# Altium schematic symbol library 74S153.SchLib: 1 symbol
Pins are listed as number, name and electrical type; pins without a type are passive.

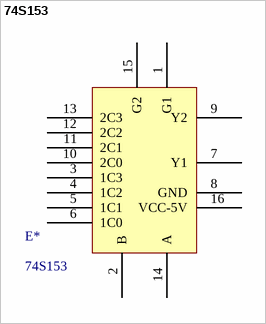
[diagram p0: symbol 74S153]

## 74S153
designator E*
Supplier 1: Rochester Electronics; Supplier Part Number 1: DM74S153N
footprint DIP16
pins: 1 G1, 2 B, 3 1C3, 4 1C2, 5 1C1, 6 1C0, 7 Y1, 8 GND, 9 Y2, 10 2C0, 11 2C1, 12 2C2, 13 2C3, 14 A, 15 G2, 16 VCC-5V